# EAGLE library part SDE2506 (library atmel)
I2C/MicroWire EEPROM (24xxx)
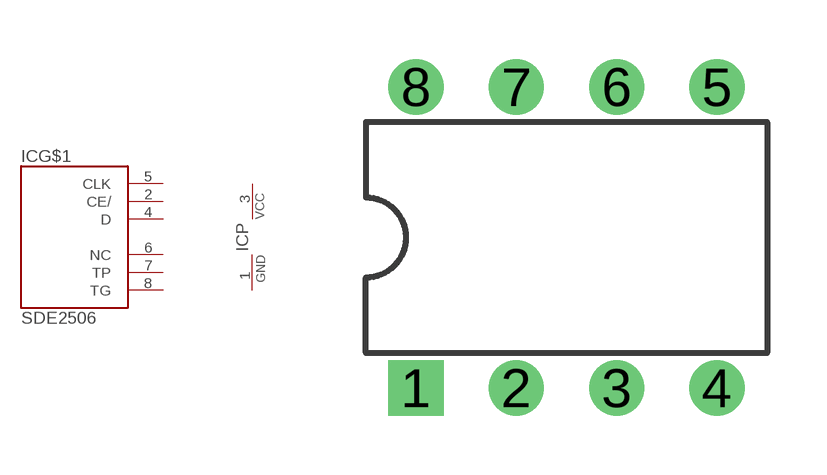
[diagram p8: symbol with the pads of DIL08; footprint DIL08]

Designator prefix IC; gates G$1=SDE2506 P=PWR

## SDE2506P  [DIL08]
1  P:GND  pwr
2  G$1:CE/  in
3  P:VCC  pwr
4  G$1:D
5  G$1:CLK  in
6  G$1:NC  nc
7  G$1:TP  in
8  G$1:TG

## Footprint DIL08 (pad centres in mm)
DIL package, pin row distance 300mil
drill 0.8 pad 1.4 square: 1 -3.81,-3.81
drill 0.8 pad 1.4: 2 -1.27,-3.81; 3 1.27,-3.81; 4 3.81,-3.81; 5 3.81,3.81; 6 1.27,3.81; 7 -1.27,3.81; 8 -3.81,3.81